# EAGLE library part ACS710/ACS716 (library Shohei)
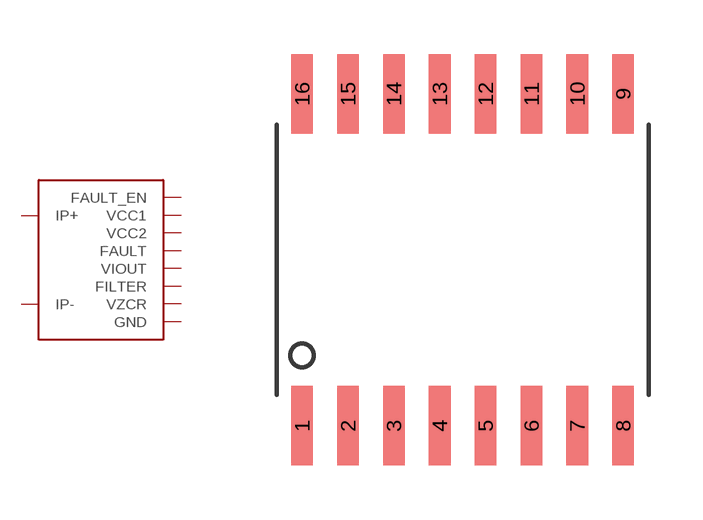
[diagram p10: symbol with the pads of SOIC16-W; footprint SOIC16-W]

Designator prefix -

## ACS710/ACS716  [SOIC16-W]
1  IP+
2  IP+
3  IP+
4  IP+
5  IP-
6  IP-
7  IP-
8  IP-
9  GND
10  VZCR
11  FILTER
12  VIOUT
13  FAULT
14  VCC2
15  VCC1
16  FAULT_EN

## Footprint SOIC16-W (pad centres in mm)
smd 0.6 x 2.2: 1 -4.445,-4.6; 2 -3.175,-4.6; 3 -1.905,-4.6; 4 -0.635,-4.6; 5 0.635,-4.6; 6 1.905,-4.6; 7 3.175,-4.6; 8 4.445,-4.6; 9 4.445,4.6; 10 3.175,4.6; 11 1.905,4.6; 12 0.635,4.6; 13 -0.635,4.6; 14 -1.905,4.6; 15 -3.175,4.6; 16 -4.445,4.6